# EAGLE library part ALPS_RK27 (library dreimalbe)
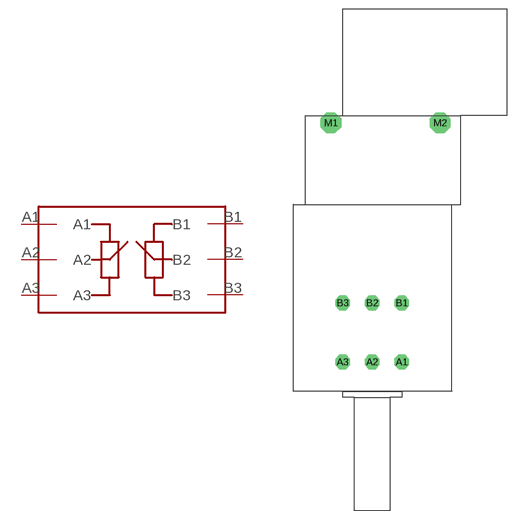
[diagram p0: symbol with the pads of ALPS_RK27; footprint ALPS_RK27]

Designator prefix -

## ALPS_RK27  [ALPS_RK27]
A1  A1
A2  A2
A3  A3
B1  B1
B2  B2
B3  B3

## Footprint ALPS_RK27 (pad centres in mm)
drill 1.2 pad 2.5 octagon: A1 5,0; A2 0,0; A3 -5,0; B1 5,10; B2 0,10; B3 -5,10
drill 2 pad 3.5 octagon: M1 -7,40.5; M2 11.5,40.5